# Altium schematic symbol library I2C_LCD.SchLib: 1 symbol
Pins are listed as number, name and electrical type; pins without a type are passive.

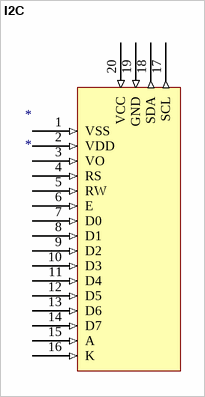
[diagram p0: symbol I2C]

## I2C
designator *
footprint I2C_LCD
pins: 1 VSS (in), 2 VDD (in), 3 VO (in), 4 RS (in), 5 RW (in), 6 E (in), 7 D0 (in), 8 D1 (in), 9 D2 (in), 10 D3 (in), 11 D4 (in), 12 D5 (in), 13 D6 (in), 14 D7 (in), 15 A (in), 16 K (in), 17 SCL (out), 18 SDA (out), 19 GND (in), 20 VCC (in)